# EAGLE library part MCP4241-103E/P (library Webmaster442)
Digital POT
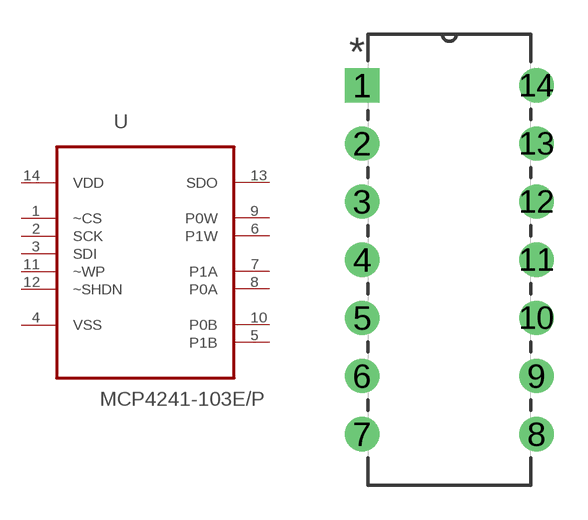
[diagram p1: symbol with the pads of DIP254P762X533-14; footprint DIP254P762X533-14]

Designator prefix -

## MCP4241-103E/P (MPN: MCP4241-103E/P; OC_FARNELL: 1578439; OC_NEWARK: 08N6507; PACKAGE: DIP-14; SUPPLIER: Microchip)  [DIP254P762X533-14]
1  ~CS  in
2  SCK  in
3  SDI  in
4  VSS  pwr
5  P1B
6  P1W
7  P1A
8  P0A
9  P0W
10  P0B
11  ~WP  in
12  ~SHDN  in
13  SDO  out
14  VDD  pwr

## Footprint DIP254P762X533-14 (pad centres in mm)
drill 0.991 square: 1 -7.62,15.24
drill 0.991: 2 -7.62,12.7; 3 -7.62,10.16; 4 -7.62,7.62; 5 -7.62,5.08; 6 -7.62,2.54; 7 -7.62,0; 8 0,0; 9 0,2.54; 10 0,5.08; 11 0,7.62; 12 0,10.16; 13 0,12.7; 14 0,15.24